# Altium schematic symbol library con-hirose.SCHLIB: 42 symbols
Pins are listed as number, name and electrical type; pins without a type are passive.

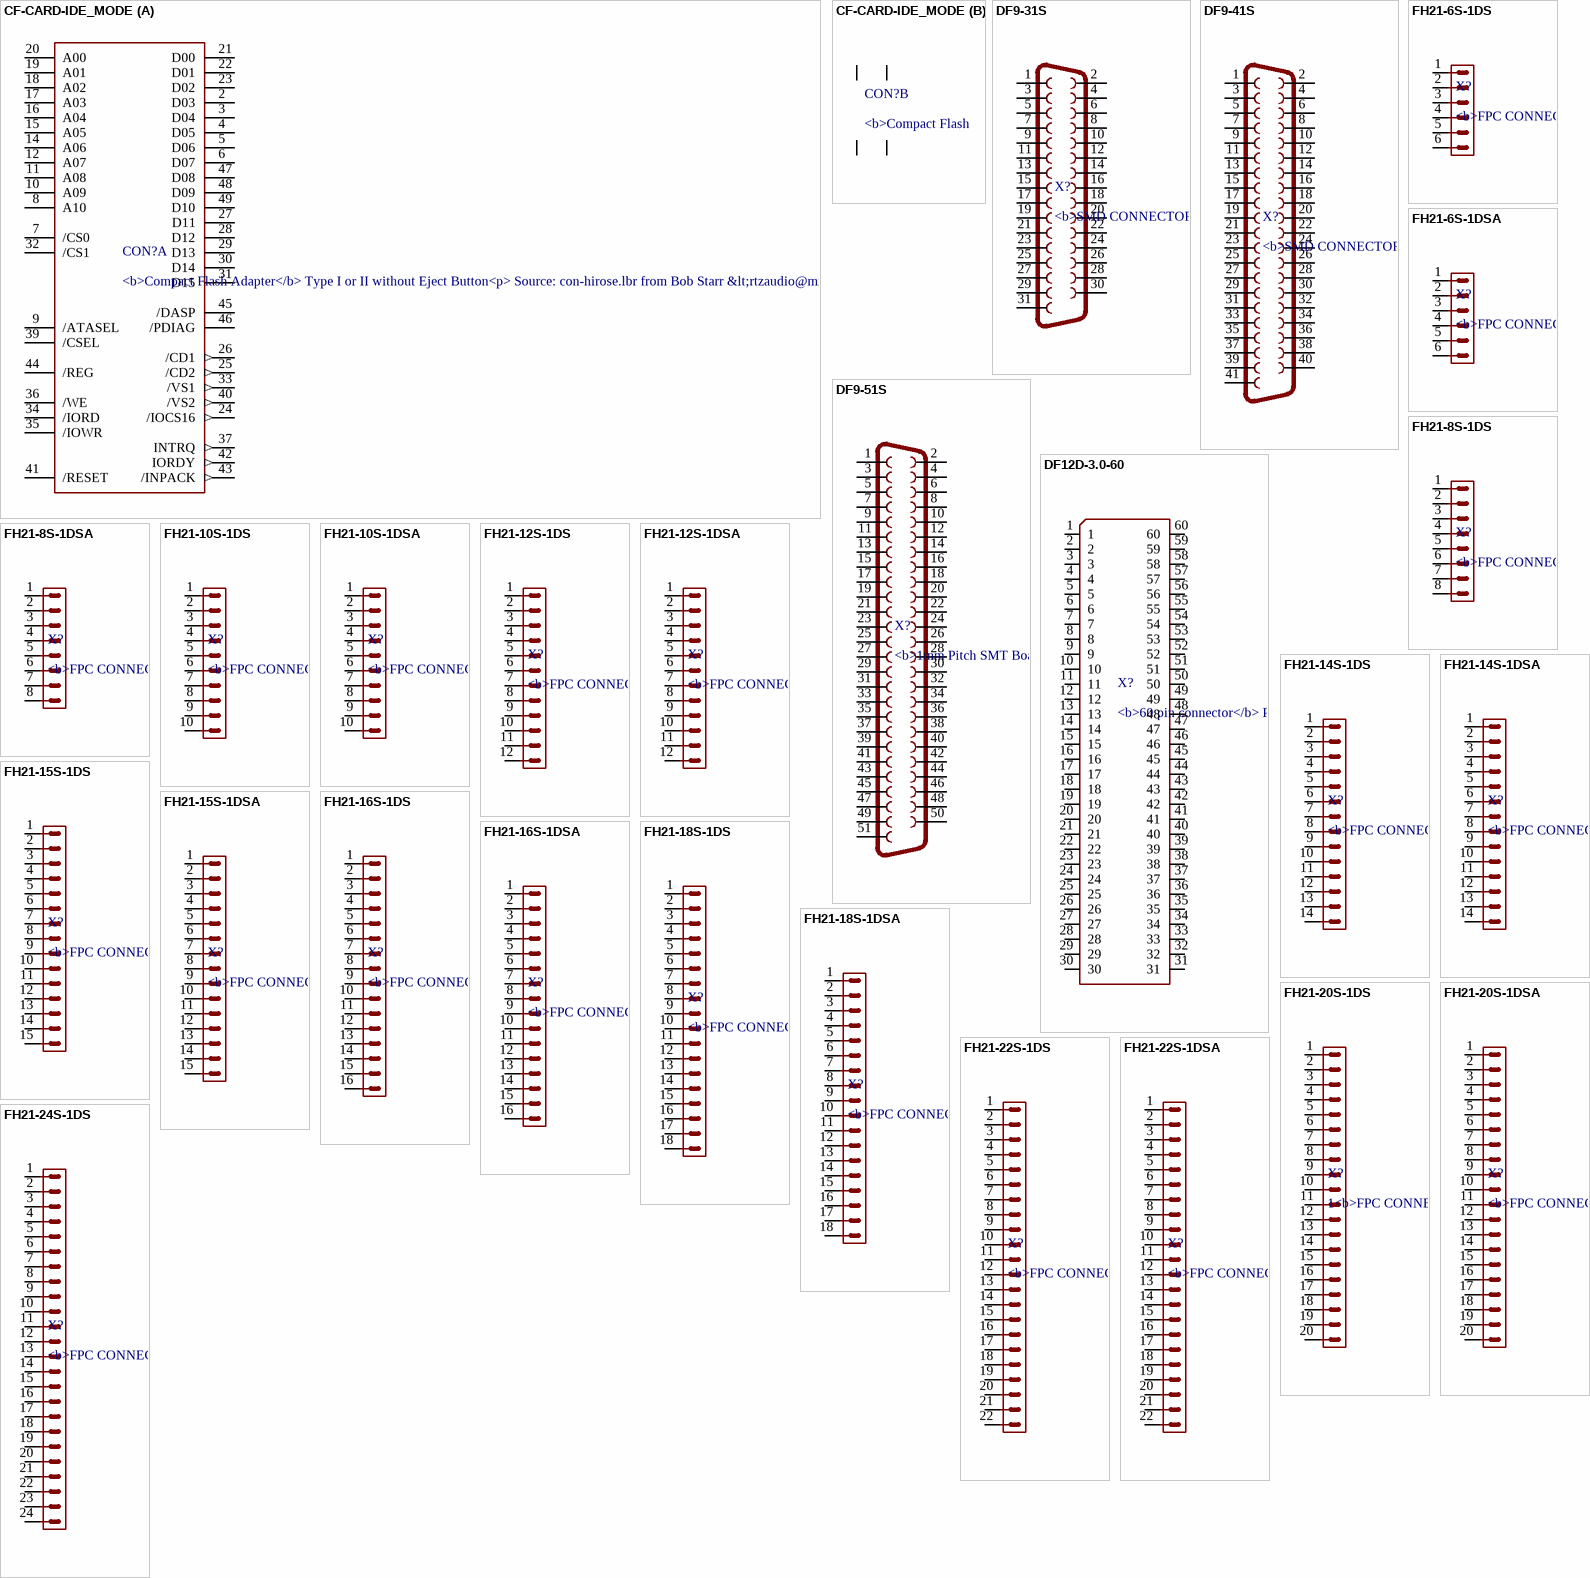
[diagram p0: symbols CF-CARD-IDE_MODE to FH21-24S-1DS]

## CF-CARD-IDE_MODE
designator CON?, comment <b>Compact Flash Adapter</b> Type I or II without Eject Button<p> / Source: con-hirose.lbr from Bob Starr &lt;rtzaudio@mindspring.com&gt;
footprint MI20-50PD-SF
part A pins: 2 D03, 3 D04, 4 D05, 5 D06, 6 D07, 7 /CS0, 8 A10, 9 /ATASEL, 10 A09, 11 A08, 12 A07, 14 A06, 15 A05, 16 A04, 17 A03, 18 A02, 19 A01, 20 A00, 21 D00, 22 D01, 23 D02, 24 /IOCS16 (out), 25 /CD2 (out), 26 /CD1 (out), 27 D11, 28 D12, 29 D13, 30 D14, 31 D15, 32 /CS1, 33 /VS1 (out), 34 /IORD, 35 /IOWR, 36 /WE, 37 INTRQ (out), 39 /CSEL, 40 /VS2 (out), 41 /RESET, 42 IORDY (out), 43 /INPACK (out), 44 /REG, 45 /DASP, 46 /PDIAG, 47 D08, 48 D09, 49 D10
part B pins: 1 GND1 (power), 13 VCC2 (power), 38 VCC1 (power), 50 GND2 (power)

## DF9-31S
designator X?, comment <b>SMD CONNECTOR</b><p> / Source: con-hirose.lbr from Bob Starr &lt;rtzaudio@mindspring.com&gt;
footprint DF9-31S
pins: 1, 2, 3, 4, 5, 6, 7, 8, 9, 10, 11, 12, 13, 14, 15, 16, 17, 18, 19, 20, 21, 22, 23, 24, 25, 26, 27, 28, 29, 30, 31

## DF9-41S
designator X?, comment <b>SMD CONNECTOR</b><p> / Source: con-hirose.lbr from Bob Starr &lt;rtzaudio@mindspring.com&gt;
footprint DF9-41S
pins: 1, 2, 3, 4, 5, 6, 7, 8, 9, 10, 11, 12, 13, 14, 15, 16, 17, 18, 19, 20, 21, 22, 23, 24, 25, 26, 27, 28, 29, 30, 31, 32, 33, 34, 35, 36, 37, 38, 39, 40, 41

## DF9-51S
designator X?, comment <b>1mm Pitch SMT Board to Board Connector</b><p> / (Standard Interface Connector Compliant with VESA FPDI-1)<br> / Source: http://www.hirose.co.jp/cataloge_hp/e54000041.pdf
footprint DF9-51S
pins: 1, 2, 3, 4, 5, 6, 7, 8, 9, 10, 11, 12, 13, 14, 15, 16, 17, 18, 19, 20, 21, 22, 23, 24, 25, 26, 27, 28, 29, 30, 31, 32, 33, 34, 35, 36, 37, 38, 39, 40, 41, 42, 43, 44, 45, 46, 47, 48, 49, 50, 51

## DF12D-3.0-60
designator X?, comment <b>60 pin connector</b> PN: DF12D(3.0)-60DP-0.5V<p> / Source: con-hirose-df12d(3.0)60dp0.5v80.lbr from Bob Starr &lt;rtzaudio@mindspring.com&gt;
footprint DF12-3.0-60
pins: 1, 2, 3, 4, 5, 6, 7, 8, 9, 10, 11, 12, 13, 14, 15, 16, 17, 18, 19, 20, 21, 22, 23, 24, 25, 26, 27, 28, 29, 30, 31, 32, 33, 34, 35, 36, 37, 38, 39, 40, 41, 42, 43, 44, 45, 46, 47, 48, 49, 50, 51, 52, 53, 54, 55, 56, 57, 58, 59, 60

## FH21-6S-1DS
designator X?, comment <b>FPC CONNECTOR</b><p> / Source: con-hirose.lbr from Bob Starr &lt;rtzaudio@mindspring.com&gt;
footprint FH21-6S-1DS
pins: 1, 2, 3, 4, 5, 6

## FH21-6S-1DSA
designator X?, comment <b>FPC CONNECTOR</b><p> / Source: con-hirose.lbr from Bob Starr &lt;rtzaudio@mindspring.com&gt;
footprint FH21-6S-1DSA
pins: 1, 2, 3, 4, 5, 6

## FH21-8S-1DS
designator X?, comment <b>FPC CONNECTOR</b><p> / Source: con-hirose.lbr from Bob Starr &lt;rtzaudio@mindspring.com&gt;
footprint FH21-8S-1DS
pins: 1, 2, 3, 4, 5, 6, 7, 8

## FH21-8S-1DSA
designator X?, comment <b>FPC CONNECTOR</b><p> / Source: con-hirose.lbr from Bob Starr &lt;rtzaudio@mindspring.com&gt;
footprint FH21-8S-1DSA
pins: 1, 2, 3, 4, 5, 6, 7, 8

## FH21-10S-1DS
designator X?, comment <b>FPC CONNECTOR</b><p> / Source: con-hirose.lbr from Bob Starr &lt;rtzaudio@mindspring.com&gt;
footprint FH21-10S-1DS
pins: 1, 2, 3, 4, 5, 6, 7, 8, 9, 10

## FH21-10S-1DSA
designator X?, comment <b>FPC CONNECTOR</b><p> / Source: con-hirose.lbr from Bob Starr &lt;rtzaudio@mindspring.com&gt;
footprint FH21-10S-1DSA
pins: 1, 2, 3, 4, 5, 6, 7, 8, 9, 10

## FH21-12S-1DS
designator X?, comment <b>FPC CONNECTOR</b><p> / Source: con-hirose.lbr from Bob Starr &lt;rtzaudio@mindspring.com&gt;
footprint FH21-12S-1DS
pins: 1, 2, 3, 4, 5, 6, 7, 8, 9, 10, 11, 12

## FH21-12S-1DSA
designator X?, comment <b>FPC CONNECTOR</b><p> / Source: con-hirose.lbr from Bob Starr &lt;rtzaudio@mindspring.com&gt;
footprint FH21-12S-1DSA
pins: 1, 2, 3, 4, 5, 6, 7, 8, 9, 10, 11, 12

## FH21-14S-1DS
designator X?, comment <b>FPC CONNECTOR</b><p> / Source: con-hirose.lbr from Bob Starr &lt;rtzaudio@mindspring.com&gt;
footprint FH21-14S-1DS
pins: 1, 2, 3, 4, 5, 6, 7, 8, 9, 10, 11, 12, 13, 14

## FH21-14S-1DSA
designator X?, comment <b>FPC CONNECTOR</b><p> / Source: con-hirose.lbr from Bob Starr &lt;rtzaudio@mindspring.com&gt;
footprint FH21-14S-1DSA
pins: 1, 2, 3, 4, 5, 6, 7, 8, 9, 10, 11, 12, 13, 14

## FH21-15S-1DS
designator X?, comment <b>FPC CONNECTOR</b><p> / Source: con-hirose.lbr from Bob Starr &lt;rtzaudio@mindspring.com&gt;
footprint FH21-15S-1DS
pins: 1, 2, 3, 4, 5, 6, 7, 8, 9, 10, 11, 12, 13, 14, 15

## FH21-15S-1DSA
designator X?, comment <b>FPC CONNECTOR</b><p> / Source: con-hirose.lbr from Bob Starr &lt;rtzaudio@mindspring.com&gt;
footprint FH21-15S-1DSA
pins: 1, 2, 3, 4, 5, 6, 7, 8, 9, 10, 11, 12, 13, 14, 15

## FH21-16S-1DS
designator X?, comment <b>FPC CONNECTOR</b><p> / Source: con-hirose.lbr from Bob Starr &lt;rtzaudio@mindspring.com&gt;
footprint FH21-16S-1DS
pins: 1, 2, 3, 4, 5, 6, 7, 8, 9, 10, 11, 12, 13, 14, 15, 16

## FH21-16S-1DSA
designator X?, comment <b>FPC CONNECTOR</b><p> / Source: con-hirose.lbr from Bob Starr &lt;rtzaudio@mindspring.com&gt;
footprint FH21-16S-1DSA
pins: 1, 2, 3, 4, 5, 6, 7, 8, 9, 10, 11, 12, 13, 14, 15, 16

## FH21-18S-1DS
designator X?, comment <b>FPC CONNECTOR</b><p> / Source: con-hirose.lbr from Bob Starr &lt;rtzaudio@mindspring.com&gt;
footprint FH21-18S-1DS
pins: 1, 2, 3, 4, 5, 6, 7, 8, 9, 10, 11, 12, 13, 14, 15, 16, 17, 18

## FH21-18S-1DSA
designator X?, comment <b>FPC CONNECTOR</b><p> / Source: con-hirose.lbr from Bob Starr &lt;rtzaudio@mindspring.com&gt;
footprint FH21-18S-1DSA
pins: 1, 2, 3, 4, 5, 6, 7, 8, 9, 10, 11, 12, 13, 14, 15, 16, 17, 18

## FH21-20S-1DS
designator X?, comment 1<b>FPC CONNECTOR</b><p> / Source: con-hirose.lbr from Bob Starr &lt;rtzaudio@mindspring.com&gt;
footprint FH21-20S-1DS
pins: 1, 2, 3, 4, 5, 6, 7, 8, 9, 10, 11, 12, 13, 14, 15, 16, 17, 18, 19, 20

## FH21-20S-1DSA
designator X?, comment <b>FPC CONNECTOR</b><p> / Source: con-hirose.lbr from Bob Starr &lt;rtzaudio@mindspring.com&gt;
footprint FH21-20S-1DSA
pins: 1, 2, 3, 4, 5, 6, 7, 8, 9, 10, 11, 12, 13, 14, 15, 16, 17, 18, 19, 20

## FH21-22S-1DS
designator X?, comment <b>FPC CONNECTOR</b><p> / Source: con-hirose.lbr from Bob Starr &lt;rtzaudio@mindspring.com&gt;
footprint FH21-22S-1DS
pins: 1, 2, 3, 4, 5, 6, 7, 8, 9, 10, 11, 12, 13, 14, 15, 16, 17, 18, 19, 20, 21, 22

## FH21-22S-1DSA
designator X?, comment <b>FPC CONNECTOR</b><p> / Source: con-hirose.lbr from Bob Starr &lt;rtzaudio@mindspring.com&gt;
footprint FH21-22S-1DSA
pins: 1, 2, 3, 4, 5, 6, 7, 8, 9, 10, 11, 12, 13, 14, 15, 16, 17, 18, 19, 20, 21, 22

## FH21-24S-1DS
designator X?, comment <b>FPC CONNECTOR</b><p> / Source: con-hirose.lbr from Bob Starr &lt;rtzaudio@mindspring.com&gt;
footprint FH21-24S-1DS
pins: 1, 2, 3, 4, 5, 6, 7, 8, 9, 10, 11, 12, 13, 14, 15, 16, 17, 18, 19, 20, 21, 22, 23, 24

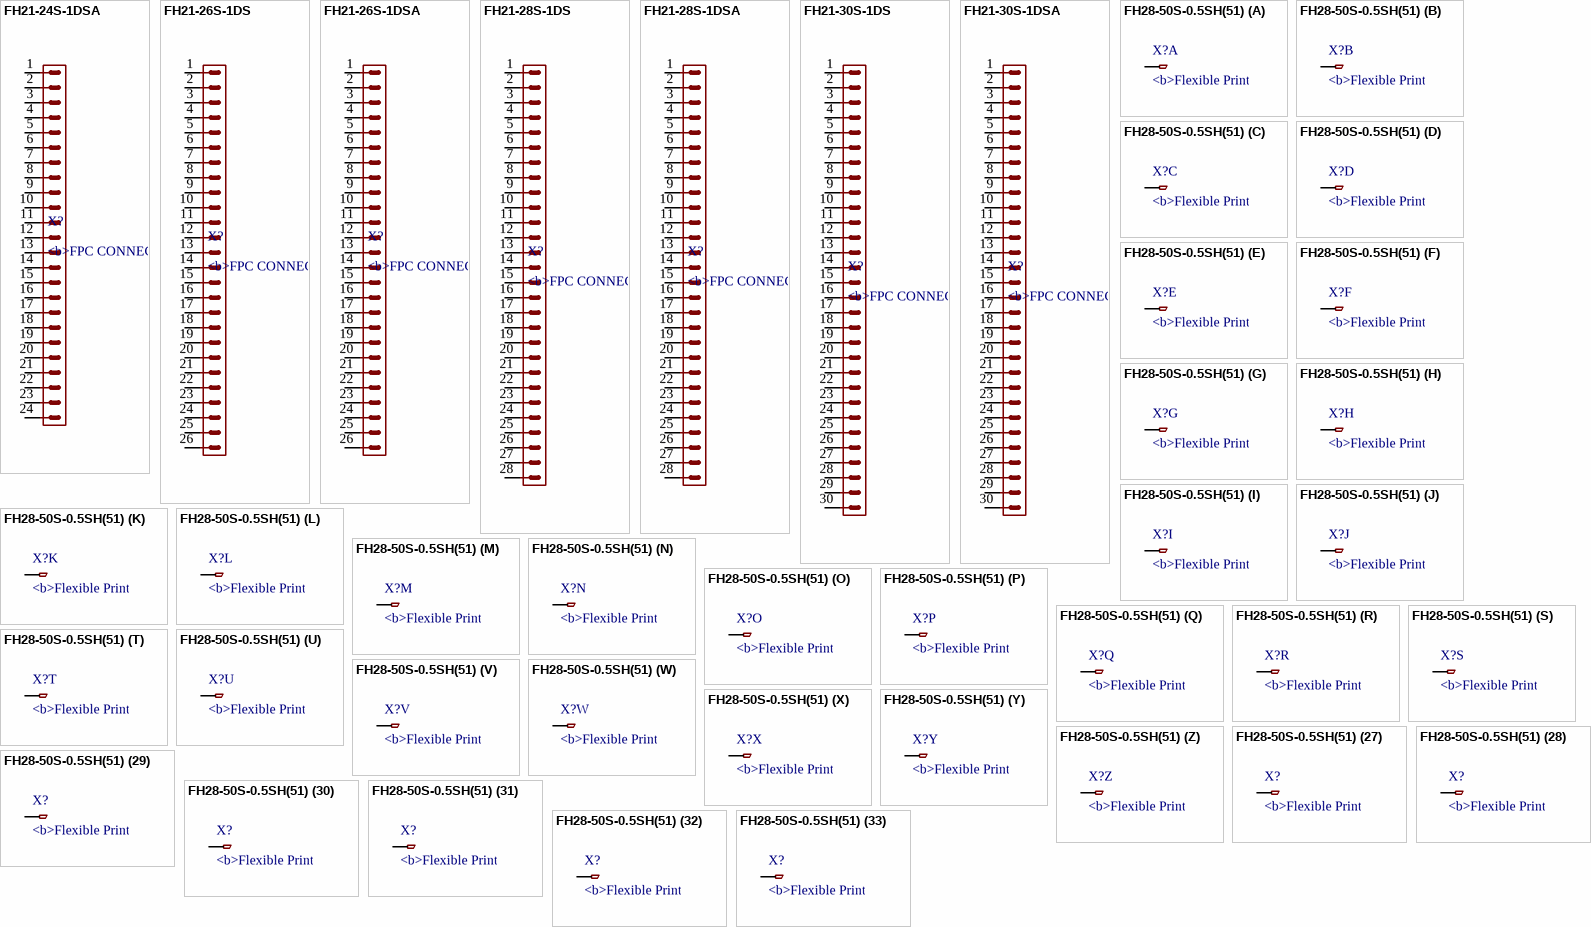
[diagram p1: symbols FH21-24S-1DSA to FH28-50S-0.5SH(51)]

## FH21-24S-1DSA
designator X?, comment <b>FPC CONNECTOR</b><p> / Source: con-hirose.lbr from Bob Starr &lt;rtzaudio@mindspring.com&gt;
footprint FH21-24S-1DSA
pins: 1, 2, 3, 4, 5, 6, 7, 8, 9, 10, 11, 12, 13, 14, 15, 16, 17, 18, 19, 20, 21, 22, 23, 24

## FH21-26S-1DS
designator X?, comment <b>FPC CONNECTOR</b><p> / Source: con-hirose.lbr from Bob Starr &lt;rtzaudio@mindspring.com&gt;
footprint FH21-26S-1DS
pins: 1, 2, 3, 4, 5, 6, 7, 8, 9, 10, 11, 12, 13, 14, 15, 16, 17, 18, 19, 20, 21, 22, 23, 24, 25, 26

## FH21-26S-1DSA
designator X?, comment <b>FPC CONNECTOR</b><p> / Source: con-hirose.lbr from Bob Starr &lt;rtzaudio@mindspring.com&gt;
footprint FH21-26S-1DSA
pins: 1, 2, 3, 4, 5, 6, 7, 8, 9, 10, 11, 12, 13, 14, 15, 16, 17, 18, 19, 20, 21, 22, 23, 24, 25, 26

## FH21-28S-1DS
designator X?, comment <b>FPC CONNECTOR</b><p> / Source: con-hirose.lbr from Bob Starr &lt;rtzaudio@mindspring.com&gt;
footprint FH21-28S-1DS
pins: 1, 2, 3, 4, 5, 6, 7, 8, 9, 10, 11, 12, 13, 14, 15, 16, 17, 18, 19, 20, 21, 22, 23, 24, 25, 26, 27, 28

## FH21-28S-1DSA
designator X?, comment <b>FPC CONNECTOR</b><p> / Source: con-hirose.lbr from Bob Starr &lt;rtzaudio@mindspring.com&gt;
footprint FH21-28S-1DSA
pins: 1, 2, 3, 4, 5, 6, 7, 8, 9, 10, 11, 12, 13, 14, 15, 16, 17, 18, 19, 20, 21, 22, 23, 24, 25, 26, 27, 28

## FH21-30S-1DS
designator X?, comment <b>FPC CONNECTOR</b><p> / Source: con-hirose.lbr from Bob Starr &lt;rtzaudio@mindspring.com&gt;
footprint FH21-30S-1DS
pins: 1, 2, 3, 4, 5, 6, 7, 8, 9, 10, 11, 12, 13, 14, 15, 16, 17, 18, 19, 20, 21, 22, 23, 24, 25, 26, 27, 28, 29, 30

## FH21-30S-1DSA
designator X?, comment <b>FPC CONNECTOR</b><p> / Source: con-hirose.lbr from Bob Starr &lt;rtzaudio@mindspring.com&gt;
footprint FH21-30S-1DSA
pins: 1, 2, 3, 4, 5, 6, 7, 8, 9, 10, 11, 12, 13, 14, 15, 16, 17, 18, 19, 20, 21, 22, 23, 24, 25, 26, 27, 28, 29, 30

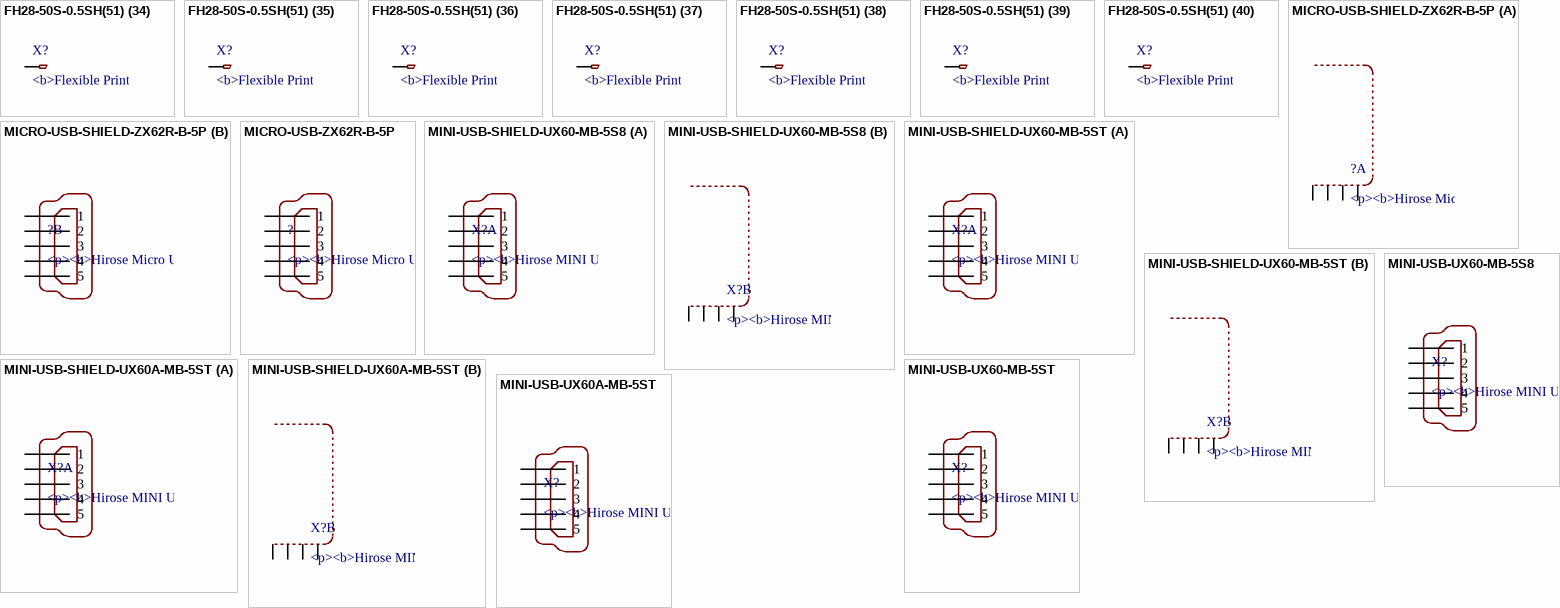
[diagram p2: symbols FH28-50S-0.5SH(51) to MINI-USB-UX60A-MB-5ST]

## FH28-50S-0.5SH(51)
designator X?, comment <b>Flexible Printed Circuit & Flexible Flat Cable ZIF Connectors</b> 0.5 mm Pitch, 2.55 mm above the board<p> / Source: http://www.hirose.co.jp/cataloge_hp/e58618038.pdf
footprint FH28-50S-0.5SH(51)
part A pins: 2 1
part B pins: 3 1
part C pins: 4 1
part D pins: 5 1
part E pins: 6 1
part F pins: 7 1
part G pins: 8 1
part H pins: 9 1
part I pins: 10 1
part J pins: 11 1
part K pins: 12 1
part L pins: 13 1
part M pins: 14 1
part N pins: 15 1
part O pins: 16 1
part P pins: 17 1
part Q pins: 18 1
part R pins: 19 1
part S pins: 20 1
part T pins: 21 1
part U pins: 22 1
part V pins: 23 1
part W pins: 24 1
part X pins: 25 1
part Y pins: 26 1
part Z pins: 27 1
part 27 pins: 28 1
part 28 pins: 29 1
part 29 pins: 30 1
part 30 pins: 31 1
part 31 pins: 32 1
part 32 pins: 33 1
part 33 pins: 34 1
part 34 pins: 35 1
part 35 pins: 36 1
part 36 pins: 37 1
part 37 pins: 38 1
part 38 pins: 39 1
part 39 pins: 40 1
part 40 pins: 41 1
part 41 pins: 42 1
part 42 pins: 43 1
part 43 pins: 44 1
part 44 pins: 45 1
part 45 pins: 46 1
part 46 pins: 47 1
part 47 pins: 48 1
part 48 pins: 49 1
part 49 pins: 50 1
part 50 pins: 1

## MICRO-USB-SHIELD-ZX62R-B-5P
designator ?, comment <p><b>Hirose Micro USB Connector</b></p> / <p> / <ul><li>ZX62R-B-5P: Micro B, reverse (top mount) shell SMT<br> / Supplier: DigiKey H11574CT-ND</li></ul> / </p> / <p>Source: http://www.hirose.co.jp/cataloge_hp/e24200011.pdf</p>
footprint ZX62R-B-5P
part A pins: M1 S1, M2 S2, M3 S3, M4 S4
part B pins: 1, 2, 3, 4, 5

## MICRO-USB-ZX62R-B-5P
designator ?, comment <p><b>Hirose Micro USB Connector</b></p> / <p> / <ul><li>ZX62R-B-5P: Micro B, reverse (top mount) shell SMT<br> / Supplier: DigiKey H11574CT-ND</li></ul> / </p> / <p>Source: http://www.hirose.co.jp/cataloge_hp/e24200011.pdf</p>
footprint ZX62R-B-5P
pins: 1, 2, 3, 4, 5

## MINI-USB-SHIELD-UX60-MB-5S8
designator X?, comment <p><b>Hirose MINI USB Connector</b></p> / <p> / <ul><li>UX60-MB-5S8: Through-hole / SMT<br> / Supplier:</li> / <li>UX60-MB-5ST: Through-hole / SMT<br> / Supplier:</li> / <li>UX60A-MB-5ST: Through-hole / SMT<br> / Supplier:</li></ul> / </p> / <p>Source: http://www.hirose.co.jp/cataloge_hp/e24000019.pdf</p>
footprint UX60-MB-5S8
part A pins: 1, 2, 3, 4, 5
part B pins: M1 S1, M2 S2, M3 S3, M4 S4

## MINI-USB-SHIELD-UX60-MB-5ST
designator X?, comment <p><b>Hirose MINI USB Connector</b></p> / <p> / <ul><li>UX60-MB-5S8: Through-hole / SMT<br> / Supplier:</li> / <li>UX60-MB-5ST: Through-hole / SMT<br> / Supplier:</li> / <li>UX60A-MB-5ST: Through-hole / SMT<br> / Supplier:</li></ul> / </p> / <p>Source: http://www.hirose.co.jp/cataloge_hp/e24000019.pdf</p>
footprint UX60-MB-5ST
part A pins: 1, 2, 3, 4, 5
part B pins: M1 S1, M2 S2, M3 S3, M4 S4

## MINI-USB-SHIELD-UX60A-MB-5ST
designator X?, comment <p><b>Hirose MINI USB Connector</b></p> / <p> / <ul><li>UX60-MB-5S8: Through-hole / SMT<br> / Supplier:</li> / <li>UX60-MB-5ST: Through-hole / SMT<br> / Supplier:</li> / <li>UX60A-MB-5ST: Through-hole / SMT<br> / Supplier:</li></ul> / </p> / <p>Source: http://www.hirose.co.jp/cataloge_hp/e24000019.pdf</p>
footprint UX60A-MB-5ST
part A pins: 1, 2, 3, 4, 5
part B pins: M1 S1, M2 S2, M3 S3, M4 S4

## MINI-USB-UX60-MB-5S8
designator X?, comment <p><b>Hirose MINI USB Connector</b></p> / <p> / <ul><li>UX60-MB-5S8: Through-hole / SMT<br> / Supplier:</li> / <li>UX60-MB-5ST: Through-hole / SMT<br> / Supplier:</li> / <li>UX60A-MB-5ST: Through-hole / SMT<br> / Supplier:</li></ul> / </p> / <p>Source: http://www.hirose.co.jp/cataloge_hp/e24000019.pdf</p>
footprint UX60-MB-5S8
pins: 1, 2, 3, 4, 5

## MINI-USB-UX60-MB-5ST
designator X?, comment <p><b>Hirose MINI USB Connector</b></p> / <p> / <ul><li>UX60-MB-5S8: Through-hole / SMT<br> / Supplier:</li> / <li>UX60-MB-5ST: Through-hole / SMT<br> / Supplier:</li> / <li>UX60A-MB-5ST: Through-hole / SMT<br> / Supplier:</li></ul> / </p> / <p>Source: http://www.hirose.co.jp/cataloge_hp/e24000019.pdf</p>
footprint UX60-MB-5ST
pins: 1, 2, 3, 4, 5

## MINI-USB-UX60A-MB-5ST
designator X?, comment <p><b>Hirose MINI USB Connector</b></p> / <p> / <ul><li>UX60-MB-5S8: Through-hole / SMT<br> / Supplier:</li> / <li>UX60-MB-5ST: Through-hole / SMT<br> / Supplier:</li> / <li>UX60A-MB-5ST: Through-hole / SMT<br> / Supplier:</li></ul> / </p> / <p>Source: http://www.hirose.co.jp/cataloge_hp/e24000019.pdf</p>
footprint UX60A-MB-5ST
pins: 1, 2, 3, 4, 5